# EAGLE library part EESAMR34J18-V1/CT (library EESAMR34)
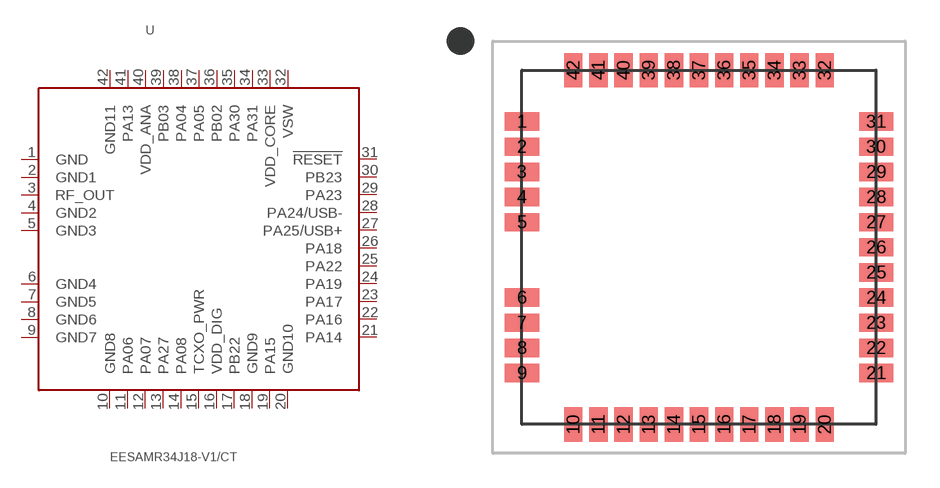
[diagram p0: symbol with the pads of EESAMR34; footprint EESAMR34]

Designator prefix -

## EESAMR34J18-V1/CTNUEVO  [EESAMR34]
1  GND  pwr
2  GND1  pwr
3  RF_OUT  pwr
4  GND2  pwr
5  GND3  pwr
6  GND4  pwr
7  GND5  pwr
8  GND6  pwr
9  GND7  pwr
10  GND8  pwr
11  PA06  pwr
12  PA07  pwr
13  PA27  pwr
14  PA08  pwr
15  TCXO_PWR  pwr
16  VDD_DIG  pwr
17  PB22  pwr
18  GND9  pwr
19  PA15  pwr
20  GND10  pwr
21  PA14  pwr
22  PA16  pwr
23  PA17  pwr
24  PA19  pwr
25  PA22  pwr
26  PA18  pwr
27  PA25/USB+  pwr
28  PA24/USB-  pwr
29  PA23  pwr
30  PB23  pwr
31  !RESET  pwr
32  VSW  pwr
33  VDD_CORE  pwr
34  PA31  pwr
35  PA30  pwr
36  PB02  pwr
37  PA05  pwr
38  PA04  pwr
39  PB03  pwr
40  VDD_ANA  pwr
41  PA13  pwr
42  GND11  pwr

## Footprint EESAMR34 (pad centres in mm)
smd 1.5 x 0.8: 1 -2.25,-2.25; 2 -2.25,-3.35; 3 -2.25,-4.45; 4 -2.25,-5.55; 5 -2.25,-6.65; 6 -2.25,-9.95; 7 -2.25,-11.05; 8 -2.25,-12.15; 9 -2.25,-13.25; 21 13.25,-13.25; 22 13.25,-12.15; 23 13.25,-11.05; 24 13.25,-9.95; 25 13.25,-8.85; 26 13.25,-7.75; 27 13.25,-6.65; 28 13.25,-5.55; 29 13.25,-4.45; 30 13.25,-3.35; 31 13.25,-2.25
smd 0.8 x 1.5: 10 0,-15.5; 11 1.1,-15.5; 12 2.2,-15.5; 13 3.3,-15.5; 14 4.4,-15.5; 15 5.5,-15.5; 16 6.6,-15.5; 17 7.7,-15.5; 18 8.8,-15.5; 19 9.9,-15.5; 20 11,-15.5; 32 11,0; 33 9.9,0; 34 8.8,0; 35 7.7,0; 36 6.6,0; 37 5.5,0; 38 4.4,0; 39 3.3,0; 40 2.2,0; 41 1.1,0; 42 0,0